# EAGLE library part LM13700 (library _motovilo)
Dual OTA with buffers
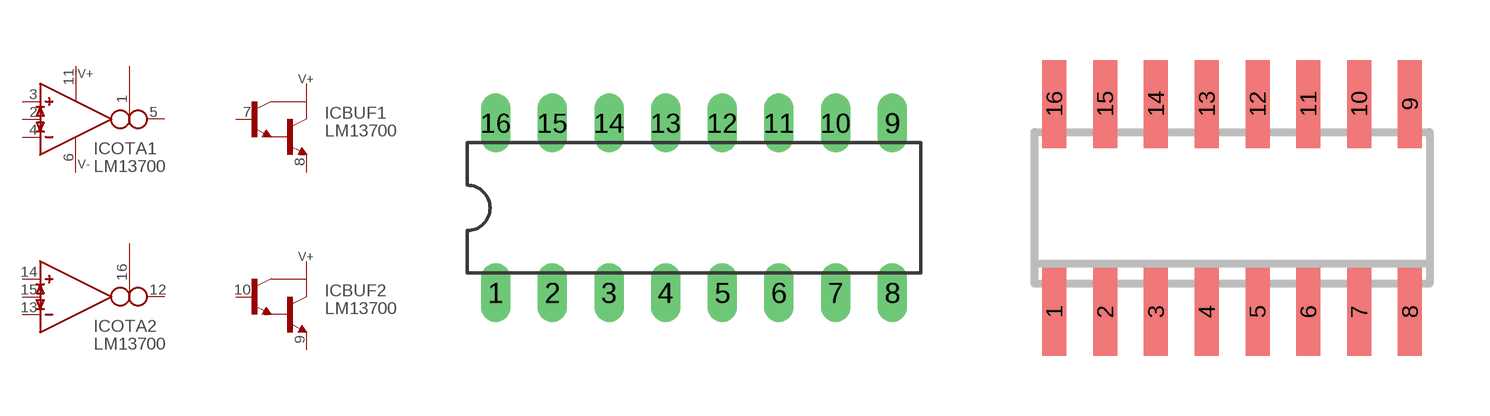
[diagram p19: symbol with the pads of DIL16; footprints DIL16, SO16]

Designator prefix IC; gates OTA1=OTA_DIODES BUF1=BUF1 OTA2=OTA_DIODES BUF2=BUF1 SUPPLY=OTA_SUPPLY

## LM13700N  [DIL16]
1  OTA1:I_BIAS  in
2  OTA1:I_DIODE  in
3  OTA1:IN_P  in
4  OTA1:IN_N  in
5  OTA1:OUT  out
6  SUPPLY:V-  sup
7  BUF1:B  pas
8  BUF1:E  pas
9  BUF2:E  pas
10  BUF2:B  pas
11  SUPPLY:V+  sup
12  OTA2:OUT  out
13  OTA2:IN_N  in
14  OTA2:IN_P  in
15  OTA2:I_DIODE  in
16  OTA2:I_BIAS  in

## LM13700M  [SO16]
Pads as for DIL16

## LM13700MX  [SO16]
Pads as for DIL16

## Footprint DIL16 (pad centres in mm)
Dual In Line Package
drill 0.813 long: 1 -8.89,-3.81; 2 -6.35,-3.81; 3 -3.81,-3.81; 4 -1.27,-3.81; 5 1.27,-3.81; 6 3.81,-3.81; 7 6.35,-3.81; 8 8.89,-3.81; 9 8.89,3.81; 10 6.35,3.81; 11 3.81,3.81; 12 1.27,3.81; 13 -1.27,3.81; 14 -3.81,3.81; 15 -6.35,3.81; 16 -8.89,3.81

## Footprint SO16 (pad centres in mm)
SMALL OUTLINE INTEGRATED CIRCUIT body 3.9 mm/JEDEC MS-012AC
smd 0.6 x 2.2: 1 -4.445,-2.6; 2 -3.175,-2.6; 3 -1.905,-2.6; 4 -0.635,-2.6; 5 0.635,-2.6; 6 1.905,-2.6; 7 3.175,-2.6; 8 4.445,-2.6; 9 4.445,2.6; 10 3.175,2.6; 11 1.905,2.6; 12 0.635,2.6; 13 -0.635,2.6; 14 -1.905,2.6; 15 -3.175,2.6; 16 -4.445,2.6